# Altium footprint library R_1210_3225.PcbLib: 1 footprints
Each footprint in its own frame and in the unit in brackets; x right, y up, seen from the top. Pads: shape width x height; smd on the part's side, far side on the other; paste and mask are expansions set on the pad; w line width, h text height; cw(c..) or ccw(c..) is an arc to the next point about the centre after c.
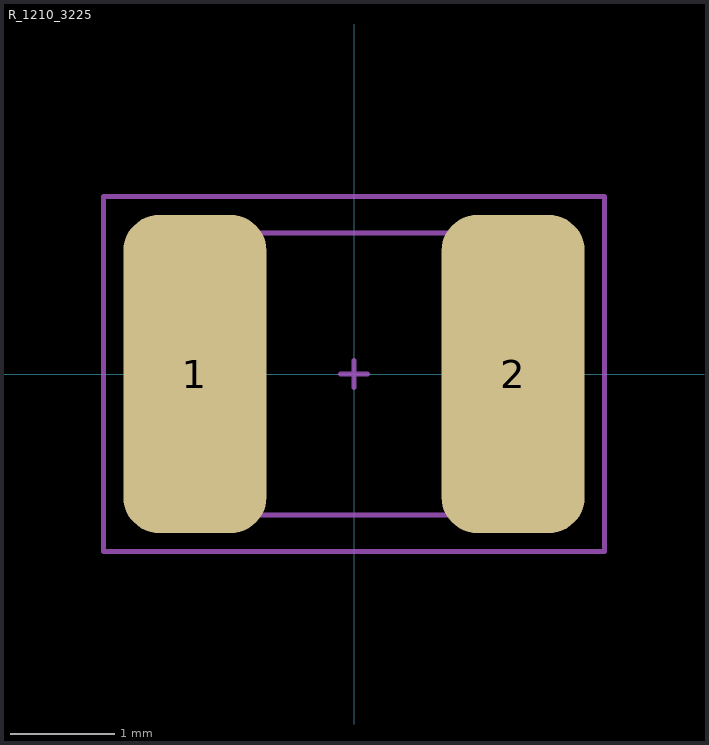
[diagram p0: the footprint, top view; thin cyan lines are the x and y axes]

## R_1210_3225 [mil]
pads (2):
  rrect50% 54x120 smd mask+1.97: 1(-60,0) 2(60,0)
Assembly Top:
  lines w1.97: -66.83,-53.14 67.02,-53.14 67.02,53.16 -66.83,53.16 -66.83,-53.14
Courtyard Top:
  lines w1.97: -5,0 5,0 ; 0,-5 0,5 ; -94.49,-66.93 94.49,-66.93 94.49,66.93 -94.49,66.93 -94.49,-66.93
3D body "RES 1210 (3225 metric).STEP": height 27.05, standoff -0.51, extent -66.83,-53.14 67.02,53.16